# EAGLE library part MAX882CSA (library wheat)
IC, LDO, MAX882, SOIC8
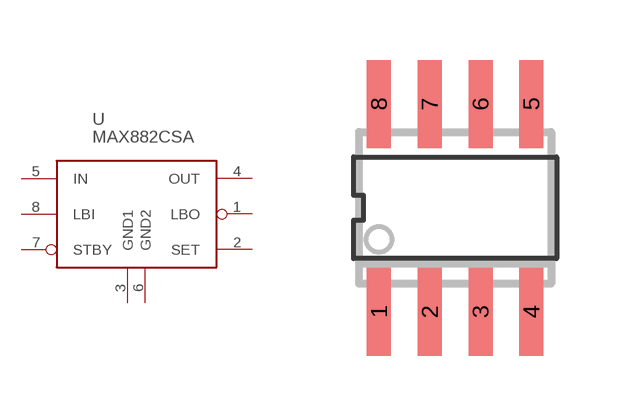
[diagram p58: symbol with the pads of SO8; footprint SO8]

Designator prefix U

## MAX882CSA  [SO8]
1  LBO  oc
2  SET  in
3  GND1  pwr
4  OUT  pwr
5  IN  in
6  GND2  pwr
7  STBY  in
8  LBI  in

## Footprint SO8 (pad centres in mm)
SO8
smd 0.6 x 2.2: 1 -1.905,-2.6; 2 -0.635,-2.6; 3 0.635,-2.6; 4 1.905,-2.6; 5 1.905,2.6; 6 0.635,2.6; 7 -0.635,2.6; 8 -1.905,2.6